# EAGLE library part IC_DIL8 (library dp_devices)
Universal 8pins IC
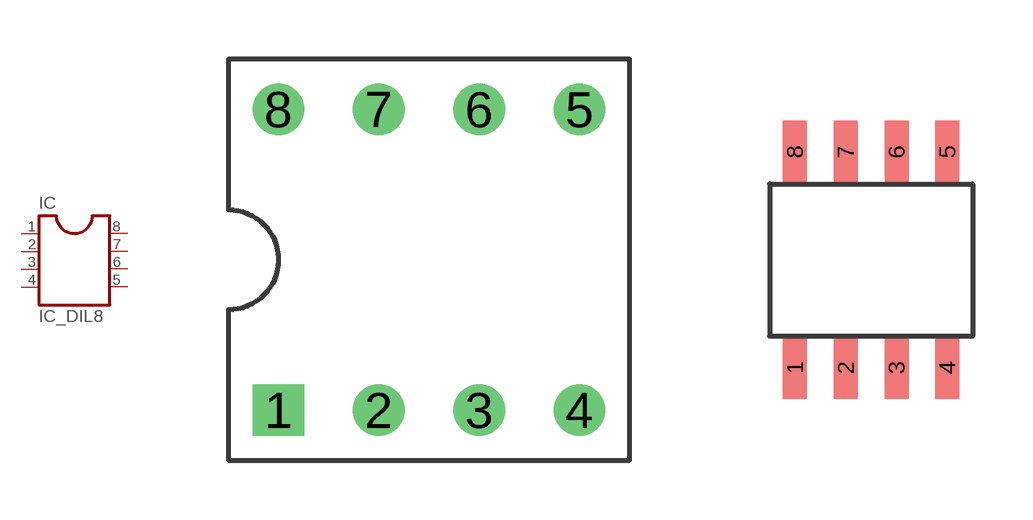
[diagram p37: symbol with the pads of DIP8; footprints DIP8, SO-8]

Designator prefix IC

## IC_DIL8-PTH  [DIP8]
1  1
2  2
3  3
4  4
5  5
6  6
7  7
8  8

## IC_DIL8-SO8  [SO-8]
Pads as for DIP8

## Footprint DIP8 (pad centres in mm)
drill 0.8 square: 1 -3.81,-3.81
drill 0.8: 2 -1.27,-3.81; 3 1.27,-3.81; 4 3.81,-3.81; 5 3.81,3.81; 6 1.27,3.81; 7 -1.27,3.81; 8 -3.81,3.81

## Footprint SO-8 (pad centres in mm)
smd 0.6 x 1.55: 1 -1.905,-2.69; 2 -0.635,-2.69; 3 0.635,-2.69; 4 1.905,-2.69; 5 1.905,2.71; 6 0.635,2.71; 7 -0.635,2.71; 8 -1.905,2.71